# Altium footprint library Термисторы.PcbLib: 3 footprints
Each footprint in its own frame and in the unit in brackets; x right, y up, seen from the top. Pads: shape width x height; smd on the part's side, far side on the other; paste and mask are expansions set on the pad; w line width, h text height; cw(c..) or ccw(c..) is an arc to the next point about the centre after c.
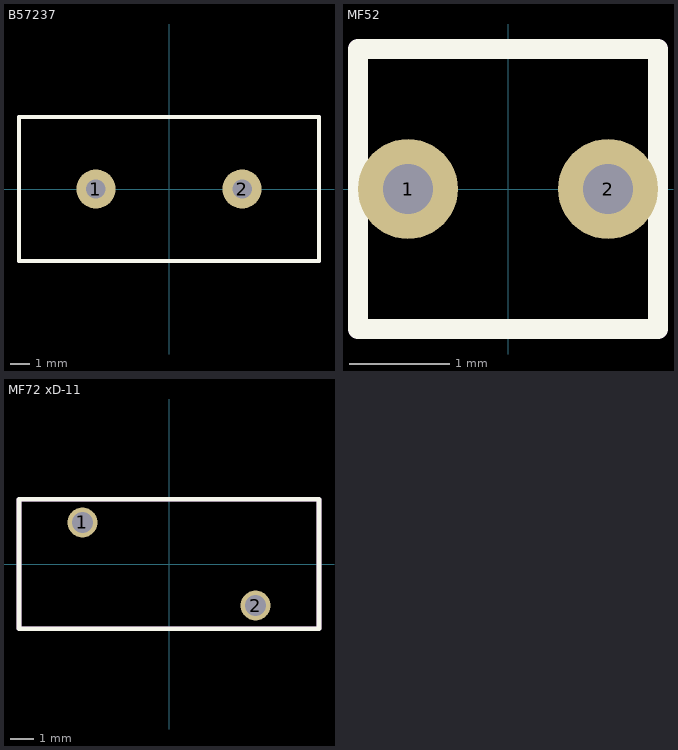
[diagram p0: the footprints below, top view; thin cyan lines are the x and y axes]

## B57237 [mm]
pads (2):
  round 2 hole 1: 1(-3.75,0) 2(3.75,0)
Top Overlay:
  lines w0.2: -7.7,-3.7 7.7,-3.7 7.7,3.7 -7.7,3.7 -7.7,-3.7
TopAssy:
  lines w0.2: -7.7,-3.7 -7.7,3.7 7.7,3.7 7.7,-3.7 -7.7,-3.7
  text ".Designator" at -2.5,-0.6 h1.52
3D body "RES_NTC-B57237S0509M0-THT_1500_0700_2200.STEP": height 22.1, standoff -3.5, extent -7.5,-3.5 7.5,3.5

## MF52 [mm]
pads (2):
  round 1 hole 0.5: 1(-1,0) 2(1,0)
Top Overlay:
  lines w0.2: -1.5,-1.4 1.5,-1.4 1.5,1.4 -1.5,1.4 -1.5,-1.4
TopAssy:
  lines w0.2: -1.5,-1.4 -1.5,1.4 1.5,1.4 1.5,-1.4 -1.5,-1.4
  text ".Designator" at -2.5,-0.6 h1.52
3D body "KLS6-MF52-A1-472F-3950.STEP": height 5.45, standoff -0.95, extent -1.25,-1.2 1.25,1.2

## MF72 xD-11 [mm]
pads (2):
  round 1.3 hole 0.9: 1(-3.75,1.8) 2(3.75,-1.8)
Top Overlay:
  lines w0.2: -6.5,-2.8 6.5,-2.8 6.5,2.8 -6.5,2.8 -6.5,-2.8
TopAssy:
  lines w0.2: -6.5,-2.8 -6.5,2.8 6.5,2.8 6.5,-2.8 -6.5,-2.8
  text ".Designator" at -2.5,-0.6 h1.52
3D body "NTC MF72 XD-11.step": height 17, standoff -3, extent -6.5,-2.75 6.5,2.75